# Altium footprint library 2 Pin Rocker Switch.PcbLib: 1 footprints
Each footprint in its own frame and in the unit in brackets; x right, y up, seen from the top. Pads: shape width x height; smd on the part's side, far side on the other; paste and mask are expansions set on the pad; w line width, h text height; cw(c..) or ccw(c..) is an arc to the next point about the centre after c.
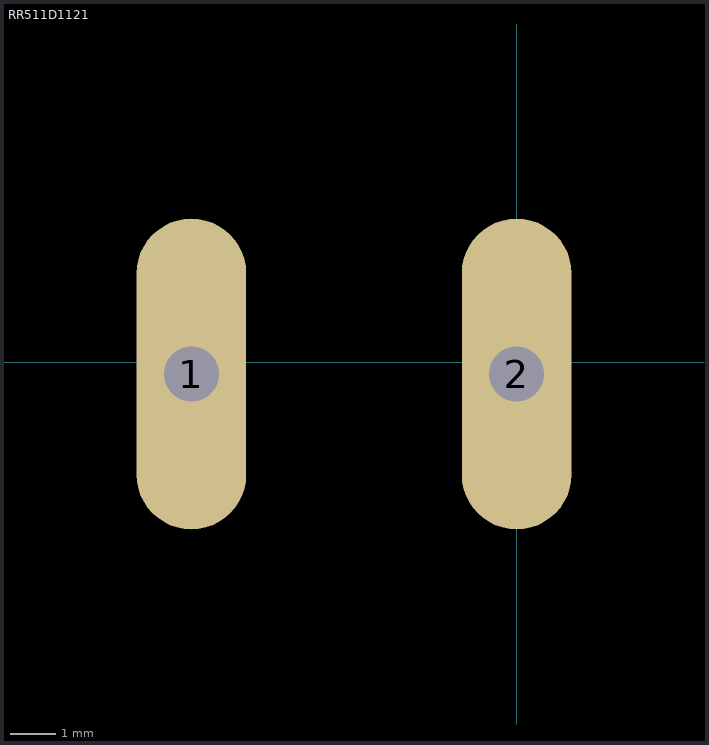
[diagram p0: the footprint, top view; thin cyan lines are the x and y axes]

## RR511D1121 [mm] "SWITCH ROCKER SPST 20A 125V"
pads (2):
  oval 2.4x6.8 hole 1.2 square: 1(-7.112,-0.254) 2(0,-0.254)
3D body "RR51xDxxx1.stp": height 16.33, standoff -8.4, extent -11.5,-11.497 11.5,11.497